# EAGLE library part EDGE-1 (library dec-con)
Single-Sided DEC Edge Connector -- (side 2)
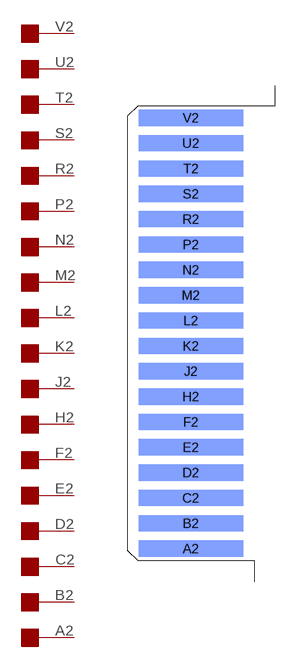
[diagram p0: symbol with the pads of EDGE-CON1; footprint EDGE-CON1]

Designator prefix -; gates V2=EDGE-RIGHT U2=EDGE-RIGHT T2=EDGE-RIGHT S2=EDGE-RIGHT R2=EDGE-RIGHT P2=EDGE-RIGHT N2=EDGE-RIGHT M2=EDGE-RIGHT L2=EDGE-RIGHT K2=EDGE-RIGHT J2=EDGE-RIGHT H2=EDGE-RIGHT F2=EDGE-RIGHT E2=EDGE-RIGHT D2=EDGE-RIGHT C2=EDGE-RIGHT B2=EDGE-RIGHT A2=EDGE-RIGHT

## EDGE-1  [EDGE-CON1]
A2  A2:1
B2  B2:1
C2  C2:1
D2  D2:1
E2  E2:1
F2  F2:1
H2  H2:1
J2  J2:1
K2  K2:1
L2  L2:1
M2  M2:1
N2  N2:1
P2  P2:1
R2  R2:1
S2  S2:1
T2  T2:1
U2  U2:1
V2  V2:1

## Footprint EDGE-CON1 (pad centres in mm)
Single-sided Edge Connector
smd 13.106 x 2.032 bottom: A2 7.938,4.128; B2 7.938,7.303; C2 7.938,10.477; D2 7.938,13.652; E2 7.938,16.828; F2 7.938,20.003; H2 7.938,23.177; J2 7.938,26.352; K2 7.938,29.527; L2 7.938,32.703; M2 7.938,35.877; N2 7.938,39.053; P2 7.938,42.227; R2 7.938,45.403; S2 7.938,48.578; T2 7.938,51.752; U2 7.938,54.928; V2 7.938,58.102